# EAGLE library part USBLC6_USBLC6-2 (library USBC6)
VERY LOW CAPACITANCE ESD PROTECTION 2 line Datasheet link <http://www.st.com/web/catalog/sense_power/FM114/CL1137/SC1489/PF93353>
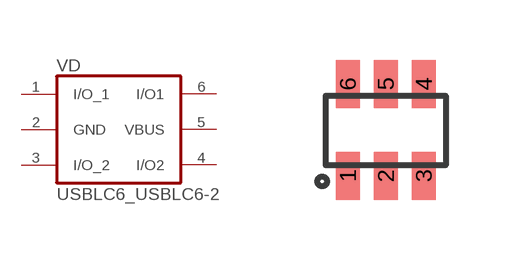
[diagram p0: symbol with the pads of USBLC6_SOT-23-6L; footprint USBLC6_SOT-23-6L]

Designator prefix VD

## USBLC6_USBLC6-2SC6  [USBLC6_SOT-23-6L]
1  I/O_1
2  GND
3  I/O_2
4  I/O2
5  VBUS
6  I/O1

## Footprint USBLC6_SOT-23-6L (pad centres in mm)
smd 0.6 x 1.2: 1 -0.95,-2.3; 2 0,-2.3; 3 0.95,-2.3; 4 0.95,0; 5 0,0; 6 -0.95,0